# EAGLE library part 62501022323 (library Wire-to-Board)
WR-BHD 2.00mm Board to Cable Transition Connector, 10 Pins=>Code : Con_WTB_IDC_62501022323 <http://katalog.we-online.de/media/thumbs2/eican/thb_Con_WTB_IDC_6250xx22323_pf2.jpg> Details see: http://katalog.we-online.de/en/em/625_0xx_223_23 Created 2014-06-05, Karrer Zheng 2014 (C) Würth Elektronik
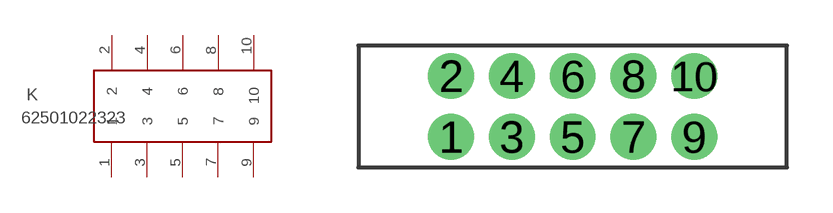
[diagram p214: symbol with the pads of 62501022323; footprint 62501022323]

Designator prefix K

## 62501022323  [62501022323]
1  1  pas
2  2  pas
3  3  pas
4  4  pas
5  5  pas
6  6  pas
7  7  pas
8  8  pas
9  9  pas
10  10  pas

## Footprint 62501022323 (pad centres in mm)
WR-BHD 2.00mm Board to Cable Transition Connector, 10 pins
drill 1: 1 -4,-1; 2 -4,1; 3 -2,-1; 4 -2,1; 5 0,-1; 6 0,1; 7 2,-1; 8 2,1; 9 4,-1; 10 4,1